# Altium schematic symbol library EDAC.SchLib: 1 symbol
Pins are listed as number, name and electrical type; pins without a type are passive.

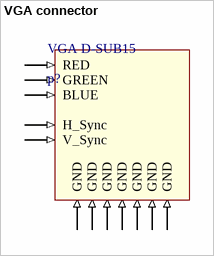
[diagram p0: symbol VGA connector]

## VGA connector
designator VGA D-SUB15, comment p?
VGA receptor
footprint SUB-D15_VGA
pins: 1 RED (in), 2 GREEN (in), 3 BLUE (in), 5 GND (in), 6 GND (in), 7 GND (in), 8 GND (in), 10 GND (in), 13 H_Sync (in), 14 V_Sync (in), 16 GND (in), 17 GND (in)